# Altium integrated library Linear Technology Power Management Switching Regulator LT1074-LT8705.IntLib: 2252 symbols (part 107 of 148)
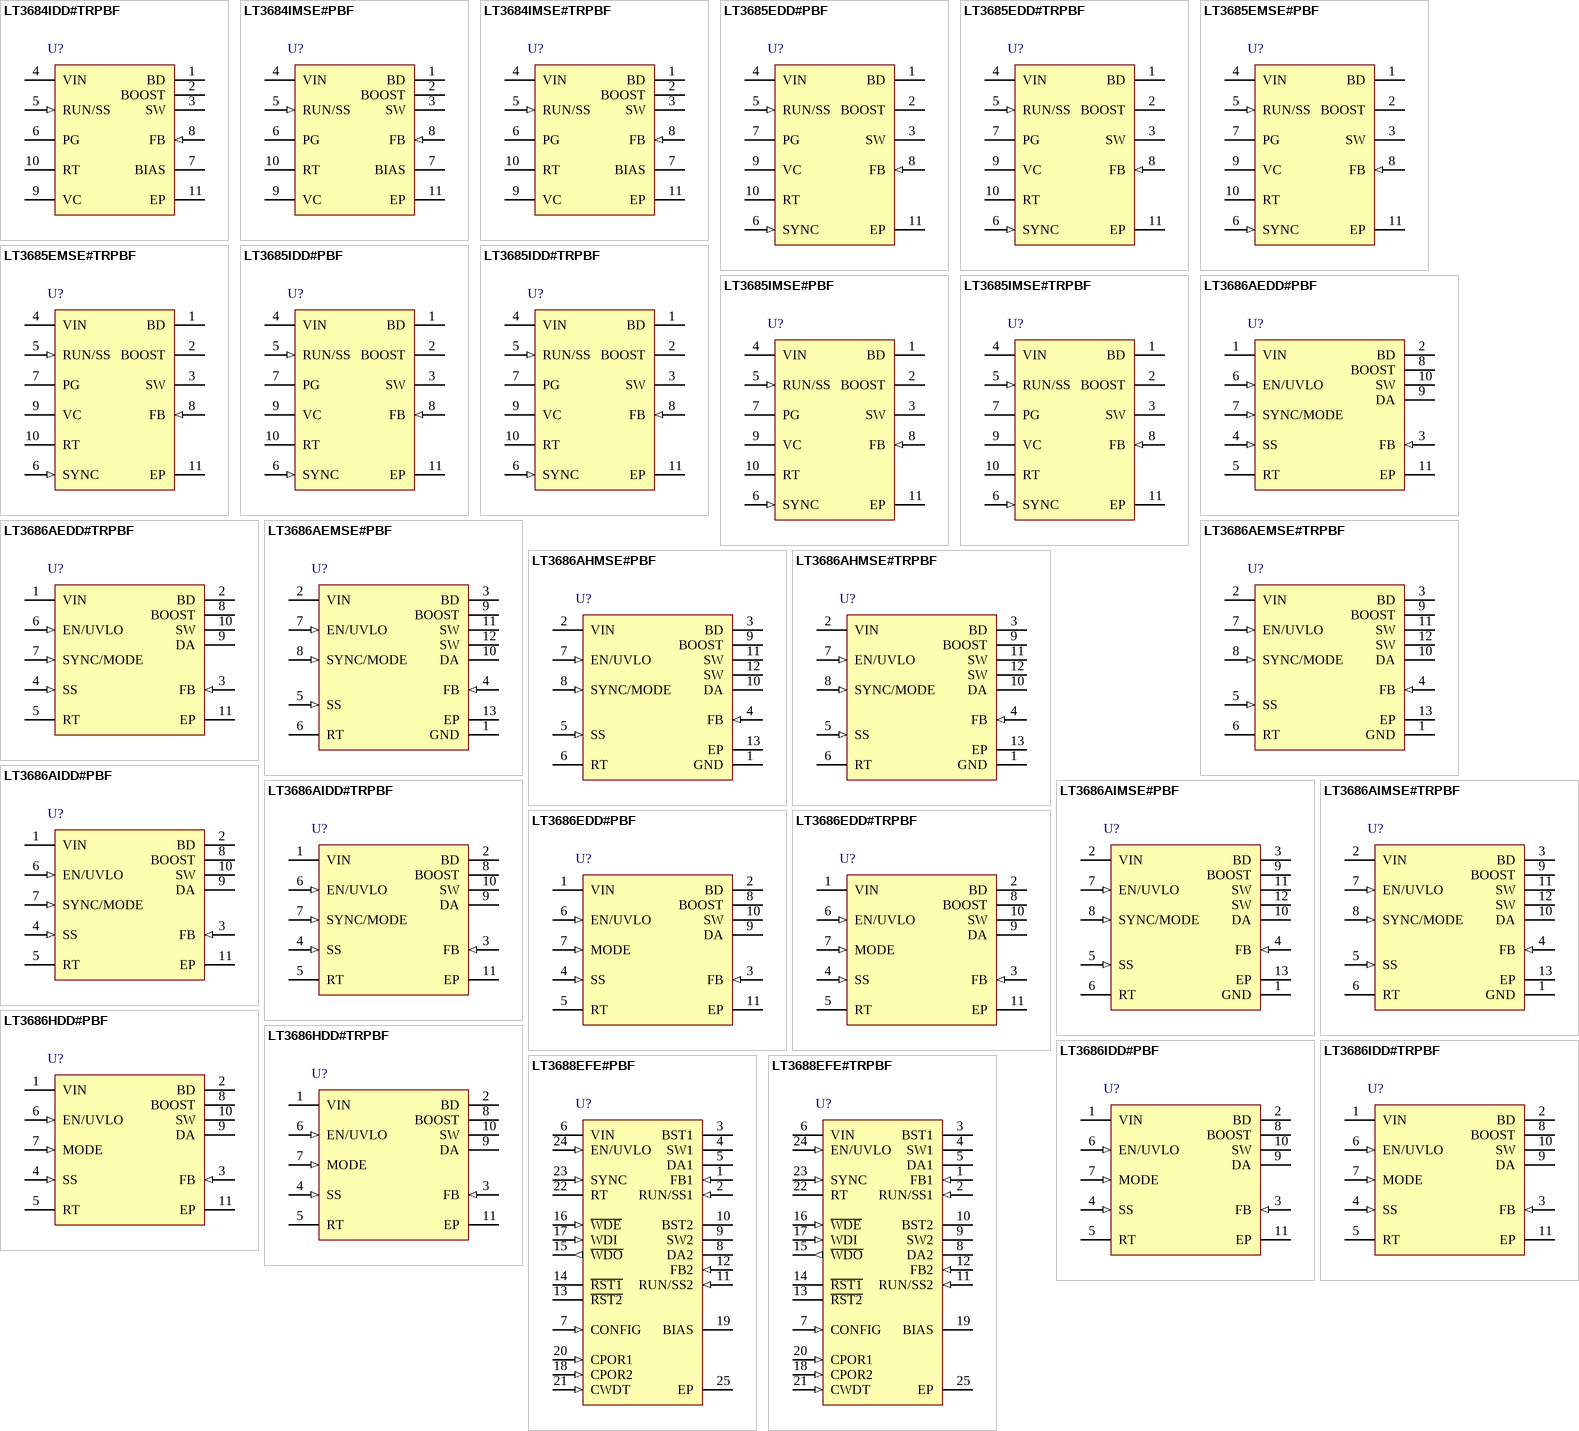
[diagram p177: symbols LT3684IDD#TRPBF to LT3688EFE#TRPBF]

## LT3686AIMSE#TRPBF
designator U?
1.2 A Step-Down Regulator, 12-pin SOP (MSE-12-EDP), -40 to 125 degC, Pb-Free, Tape and Reel; Manufacturer: Linear Technology; PartNumber: LT3686AIMSE#TRPBF; Frequency Adjust Range: 300kHz - 2.5MHz; Number of Outputs: 1; Over Voltage Protection(V): 60; DatasheetVersion: Rev. A; PackageVersion: Rev. G, 05/2013; PackageReference: MSE-12-EDP; PackageDescription: 12-Pin Plastic MSOP, Exposed Die Pad, Body 4.039 x 3 mm, Pitch 0.65 mm; Supplier 1: Digi-Key; Supplier Part Number 1: LT3686AIMSE#TRPBF-ND; Packing: Tape and Reel; RoHS: TRUE; Mounting Technology: Surface Mount; ComponentLink1Description: Manufacturer URL; ComponentLink1URL: http://www.linear.com/; ComponentLink2Description: Datasheet; ComponentLink2URL: http://cds.linear.com/docs/en/datasheet/3686afa.pdf; ComponentLink3Description: Package Specification; ComponentLink3URL: http://cds.linear.com/docs/en/packaging/05081666_G_MSE12.pdf
footprint LT-MSE-12-EDP_N (SOP, 12-Leads, Body 4.1x3.1mm, Pitch 0.65mm, Thermal Pad 2.95x1.76mm, IPC Medium Density)
footprint LT-MSE-12-EDP_L (SOP, 12-Leads, Body 4.1x3.1mm, Pitch 0.65mm, Thermal Pad 2.95x1.76mm, IPC High Density)
footprint LT-MSE-12-EDP_M (SOP, 12-Leads, Body 4.1x3.1mm, Pitch 0.65mm, Thermal Pad 2.95x1.76mm, IPC Low Density)
pins: 1 GND (power) "The exposed pad GND pin is the only ground connection for the device. The exposed pad should be soldered to a large copper area to reduce thermal resistance.", 2 VIN (power) "The VIN pin supplies current to the LT3686A's internal regulator and to the internal power switch. This pin must be locally bypassed.", 3 BD (power) "When the SYNC/MODE Pin is driven with clock pulses or tied greater than 0.8V, the LT3686A will prevent pulse-skipping at light loads by regulating an active load on the BD pin; see Applications Information section Fixed (See Datasheet)", 4 FB (in) "The LT3686A regulates its feedback pin to 0.8V. Connect the feedback resistor divider tap to this pin. Set the output voltage according to: R1=R2( VOUT/ 0.8V - 1)  A good value for R2 is 10k.", 5 SS (in) "Provides Soft-Start and Tracking. An internal 2uA current source tied to a 2.5V reference supplies current to this pin to charge an external capacitor to create a voltage ramp at the pin. Feedback voltage and switching (See Datasheet)", 6 RT "The RT pin is used to program the oscillator frequency. Select the value of RT resistor according to table 1 in the applications section of the data sheet.", 7 EN/UVLO (in) "The EN/UVLO pin is used to start up the LT3686A. Pull the pin below 0.4V to shutdown the LT3686A. The 1.28V threshold can function as an accurate undervoltage lockout (UVLO), preventing the regulator from operating until the (See Datasheet)", 8 SYNC/MODE (in) "The SYNC/MODE pin is used to synchronize the internal oscillator of the LT3686A to an external signal. The SYNC signal can be driven by a signal with pulse width of at least 200ns on and off time. The SYNC/MODE Pin also acts (See Datasheet)", 9 BOOST "The BOOST pin is used to provide a drive voltage, higher than the input voltage, to the internal bipolar NPN power switch.", 10 DA "Connect catch diode (D1) anode to this pin.", 11 SW (power) "The SW pin is the output of the internal power switch. Connect this pin to the inductor, catch diode and boost capacitor.", 12 SW (power) "The SW pin is the output of the internal power switch. Connect this pin to the inductor, catch diode and boost capacitor.", 13 EP (power) "The exposed pad GND pin is the only ground connection for the device. The exposed pad should be soldered to a large copper area to reduce thermal resistance."

## LT3686EDD#PBF
designator U?
1.2 A Step-Down Regulator, 10-pin SON (DD-10), -40 to 125 degC, Pb-Free; Manufacturer: Linear Technology; PartNumber: LT3686EDD#PBF; Frequency Adjust Range: 300kHz - 2.5MHz; Number of Outputs: 1; Over Voltage Protection(V): 55; DatasheetVersion: Rev. C; PackageVersion: Rev. C, 06/2010; PackageReference: DD-10; PackageDescription: 10-Pin Plastic DFN, Body 3 x 3 mm, Pitch 0.5 mm; Supplier 1: Digi-Key; Supplier Part Number 1: LT3686EDD#PBF-ND; Supplier 2: Newark; Supplier Part Number 2: 13T8500; RoHS: TRUE; Mounting Technology: Surface Mount; Code_JEDEC: MO-229; ComponentLink1Description: Manufacturer URL; ComponentLink1URL: http://www.linear.com/; ComponentLink2Description: Datasheet; ComponentLink2URL: http://cds.linear.com/docs/en/datasheet/3686fc.pdf; ComponentLink3Description: Package Specification; ComponentLink3URL: http://cds.linear.com/docs/en/packaging/DFN_10_05-08-1699.pdf
footprint LT-DD-10_V (SON, 10-Leads, Body 3x3mm, Pitch 0.5mm, Thermal Pad 2.38x1.65mm)
pins: 1 VIN (power) "The VIN pin supplies current to the LT3686’s internal regulator and to the internal power switch. This pin must be locally bypassed.", 2 BD (power) "The BD pin is used to provide current to the internal Boost Schottky diode. Tie this pin to output whenever possible. When the MODE pin is greater than 0.8V, the LT3686 will prevent pulse-skipping at light loads by (See Datasheet)", 3 FB (in) "The LT3686 regulates its feedback pin to 0.8V. Connect the feedback resistor divider tap to this pin. Set the output voltage according to VOUT = 0.8(1 + R1/R2). A good value for R2 is 10k.", 4 SS (in) "Provides Soft-Start and Tracking. An internal 2uA current source tied to a 2.5V reference supplies current to this pin to charge an external capacitor to create a voltage ramp at the pin. Feedback voltage and switching (See Datasheet)", 5 RT "The RT pin is used to program the oscillator frequency. Select the value of RT resistor according to Table 1 in the applications section of the data sheet.", 6 EN/UVLO (in) "The EN/UVLO pin is used to start up the LT3686. Pull the pin below 0.4V to shutdown the LT3686. The 1.27V threshold can function as an accurate undervoltagelockout (UVLO), preventing the regulator from operating until the (See Datasheet)", 7 MODE (in) "The MODE pin acts as mode select for the BD active load; when it is tied high, the LT3686 will prevent pulse skipping at light loads by regulating an active load on the BD pin. To disable the active load, tie MODE to GND", 8 BOOST "The BOOST pin is used to provide a drive voltage, higher than the input voltage, to the internal bipolar NPN power switch.", 9 DA "Connect catch diode (D1) anode to this pin.", 10 SW (power) "The SW pin is the output of the internal power switch. Connect this pin to the inductor, catch diode and boost capacitor.", 11 EP (power) "The exposed pad GND pin is the only ground connection for the device. The exposed pad should be soldered to a large copper area to reduce thermal resistance."

## LT3686EDD#TRPBF
designator U?
1.2 A Step-Down Regulator, 10-pin SON (DD-10), -40 to 125 degC, Pb-Free, Tape and Reel; Manufacturer: Linear Technology; PartNumber: LT3686EDD#TRPBF; Frequency Adjust Range: 300kHz - 2.5MHz; Number of Outputs: 1; Over Voltage Protection(V): 55; DatasheetVersion: Rev. C; PackageVersion: Rev. C, 06/2010; PackageReference: DD-10; PackageDescription: 10-Pin Plastic DFN, Body 3 x 3 mm, Pitch 0.5 mm; Supplier 1: Digi-Key; Supplier Part Number 1: LT3686EDD#TRPBF-ND; Supplier 2: Newark; Supplier Part Number 2: 13T8501; Packing: Tape and Reel; RoHS: TRUE; Mounting Technology: Surface Mount; Code_JEDEC: MO-229; ComponentLink1Description: Manufacturer URL; ComponentLink1URL: http://www.linear.com/; ComponentLink2Description: Datasheet; ComponentLink2URL: http://cds.linear.com/docs/en/datasheet/3686fc.pdf; ComponentLink3Description: Package Specification; ComponentLink3URL: http://cds.linear.com/docs/en/packaging/DFN_10_05-08-1699.pdf
footprint LT-DD-10_V (SON, 10-Leads, Body 3x3mm, Pitch 0.5mm, Thermal Pad 2.38x1.65mm)
pins: 1 VIN (power) "The VIN pin supplies current to the LT3686’s internal regulator and to the internal power switch. This pin must be locally bypassed.", 2 BD (power) "The BD pin is used to provide current to the internal Boost Schottky diode. Tie this pin to output whenever possible. When the MODE pin is greater than 0.8V, the LT3686 will prevent pulse-skipping at light loads by (See Datasheet)", 3 FB (in) "The LT3686 regulates its feedback pin to 0.8V. Connect the feedback resistor divider tap to this pin. Set the output voltage according to VOUT = 0.8(1 + R1/R2). A good value for R2 is 10k.", 4 SS (in) "Provides Soft-Start and Tracking. An internal 2uA current source tied to a 2.5V reference supplies current to this pin to charge an external capacitor to create a voltage ramp at the pin. Feedback voltage and switching (See Datasheet)", 5 RT "The RT pin is used to program the oscillator frequency. Select the value of RT resistor according to Table 1 in the applications section of the data sheet.", 6 EN/UVLO (in) "The EN/UVLO pin is used to start up the LT3686. Pull the pin below 0.4V to shutdown the LT3686. The 1.27V threshold can function as an accurate undervoltagelockout (UVLO), preventing the regulator from operating until the (See Datasheet)", 7 MODE (in) "The MODE pin acts as mode select for the BD active load; when it is tied high, the LT3686 will prevent pulse skipping at light loads by regulating an active load on the BD pin. To disable the active load, tie MODE to GND", 8 BOOST "The BOOST pin is used to provide a drive voltage, higher than the input voltage, to the internal bipolar NPN power switch.", 9 DA "Connect catch diode (D1) anode to this pin.", 10 SW (power) "The SW pin is the output of the internal power switch. Connect this pin to the inductor, catch diode and boost capacitor.", 11 EP (power) "The exposed pad GND pin is the only ground connection for the device. The exposed pad should be soldered to a large copper area to reduce thermal resistance."

## LT3686HDD#PBF
designator U?
1.2 A Step-Down Regulator, 10-pin SON (DD-10), -40 to 150 degC, Pb-Free; Manufacturer: Linear Technology; PartNumber: LT3686HDD#PBF; Frequency Adjust Range: 300kHz - 2.5MHz; Number of Outputs: 1; Over Voltage Protection(V): 55; DatasheetVersion: Rev. C; PackageVersion: Rev. C, 06/2010; PackageReference: DD-10; PackageDescription: 10-Pin Plastic DFN, Body 3 x 3 mm, Pitch 0.5 mm; Supplier 1: Digi-Key; Supplier Part Number 1: LT3686HDD#PBF-ND; Supplier 2: Farnell; Supplier Part Number 2: 2294943; Supplier 3: Newark; Supplier Part Number 3: 78R8986; RoHS: TRUE; Mounting Technology: Surface Mount; Code_JEDEC: MO-229; ComponentLink1Description: Manufacturer URL; ComponentLink1URL: http://www.linear.com/; ComponentLink2Description: Datasheet; ComponentLink2URL: http://cds.linear.com/docs/en/datasheet/3686fc.pdf; ComponentLink3Description: Package Specification; ComponentLink3URL: http://cds.linear.com/docs/en/packaging/DFN_10_05-08-1699.pdf
footprint LT-DD-10_V (SON, 10-Leads, Body 3x3mm, Pitch 0.5mm, Thermal Pad 2.38x1.65mm)
pins: 1 VIN (power) "The VIN pin supplies current to the LT3686’s internal regulator and to the internal power switch. This pin must be locally bypassed.", 2 BD (power) "The BD pin is used to provide current to the internal Boost Schottky diode. Tie this pin to output whenever possible. When the MODE pin is greater than 0.8V, the LT3686 will prevent pulse-skipping at light loads by (See Datasheet)", 3 FB (in) "The LT3686 regulates its feedback pin to 0.8V. Connect the feedback resistor divider tap to this pin. Set the output voltage according to VOUT = 0.8(1 + R1/R2). A good value for R2 is 10k.", 4 SS (in) "Provides Soft-Start and Tracking. An internal 2uA current source tied to a 2.5V reference supplies current to this pin to charge an external capacitor to create a voltage ramp at the pin. Feedback voltage and switching (See Datasheet)", 5 RT "The RT pin is used to program the oscillator frequency. Select the value of RT resistor according to Table 1 in the applications section of the data sheet.", 6 EN/UVLO (in) "The EN/UVLO pin is used to start up the LT3686. Pull the pin below 0.4V to shutdown the LT3686. The 1.27V threshold can function as an accurate undervoltagelockout (UVLO), preventing the regulator from operating until the (See Datasheet)", 7 MODE (in) "The MODE pin acts as mode select for the BD active load; when it is tied high, the LT3686 will prevent pulse skipping at light loads by regulating an active load on the BD pin. To disable the active load, tie MODE to GND", 8 BOOST "The BOOST pin is used to provide a drive voltage, higher than the input voltage, to the internal bipolar NPN power switch.", 9 DA "Connect catch diode (D1) anode to this pin.", 10 SW (power) "The SW pin is the output of the internal power switch. Connect this pin to the inductor, catch diode and boost capacitor.", 11 EP (power) "The exposed pad GND pin is the only ground connection for the device. The exposed pad should be soldered to a large copper area to reduce thermal resistance."

## LT3686HDD#TRPBF
designator U?
1.2 A Step-Down Regulator, 10-pin SON (DD-10), -40 to 150 degC, Pb-Free, Tape and Reel; Manufacturer: Linear Technology; PartNumber: LT3686HDD#TRPBF; Frequency Adjust Range: 300kHz - 2.5MHz; Number of Outputs: 1; Over Voltage Protection(V): 55; DatasheetVersion: Rev. C; PackageVersion: Rev. C, 06/2010; PackageReference: DD-10; PackageDescription: 10-Pin Plastic DFN, Body 3 x 3 mm, Pitch 0.5 mm; Supplier 1: Digi-Key; Supplier Part Number 1: LT3686HDD#TRPBF-ND; Packing: Tape and Reel; RoHS: TRUE; Mounting Technology: Surface Mount; Code_JEDEC: MO-229; ComponentLink1Description: Manufacturer URL; ComponentLink1URL: http://www.linear.com/; ComponentLink2Description: Datasheet; ComponentLink2URL: http://cds.linear.com/docs/en/datasheet/3686fc.pdf; ComponentLink3Description: Package Specification; ComponentLink3URL: http://cds.linear.com/docs/en/packaging/DFN_10_05-08-1699.pdf
footprint LT-DD-10_V (SON, 10-Leads, Body 3x3mm, Pitch 0.5mm, Thermal Pad 2.38x1.65mm)
pins: 1 VIN (power) "The VIN pin supplies current to the LT3686’s internal regulator and to the internal power switch. This pin must be locally bypassed.", 2 BD (power) "The BD pin is used to provide current to the internal Boost Schottky diode. Tie this pin to output whenever possible. When the MODE pin is greater than 0.8V, the LT3686 will prevent pulse-skipping at light loads by (See Datasheet)", 3 FB (in) "The LT3686 regulates its feedback pin to 0.8V. Connect the feedback resistor divider tap to this pin. Set the output voltage according to VOUT = 0.8(1 + R1/R2). A good value for R2 is 10k.", 4 SS (in) "Provides Soft-Start and Tracking. An internal 2uA current source tied to a 2.5V reference supplies current to this pin to charge an external capacitor to create a voltage ramp at the pin. Feedback voltage and switching (See Datasheet)", 5 RT "The RT pin is used to program the oscillator frequency. Select the value of RT resistor according to Table 1 in the applications section of the data sheet.", 6 EN/UVLO (in) "The EN/UVLO pin is used to start up the LT3686. Pull the pin below 0.4V to shutdown the LT3686. The 1.27V threshold can function as an accurate undervoltagelockout (UVLO), preventing the regulator from operating until the (See Datasheet)", 7 MODE (in) "The MODE pin acts as mode select for the BD active load; when it is tied high, the LT3686 will prevent pulse skipping at light loads by regulating an active load on the BD pin. To disable the active load, tie MODE to GND", 8 BOOST "The BOOST pin is used to provide a drive voltage, higher than the input voltage, to the internal bipolar NPN power switch.", 9 DA "Connect catch diode (D1) anode to this pin.", 10 SW (power) "The SW pin is the output of the internal power switch. Connect this pin to the inductor, catch diode and boost capacitor.", 11 EP (power) "The exposed pad GND pin is the only ground connection for the device. The exposed pad should be soldered to a large copper area to reduce thermal resistance."

## LT3686IDD#PBF
designator U?
1.2 A Step-Down Regulator, 10-pin SON (DD-10), -40 to 125 degC, Pb-Free; Manufacturer: Linear Technology; PartNumber: LT3686IDD#PBF; Frequency Adjust Range: 300kHz - 2.5MHz; Number of Outputs: 1; Over Voltage Protection(V): 55; DatasheetVersion: Rev. C; PackageVersion: Rev. C, 06/2010; PackageReference: DD-10; PackageDescription: 10-Pin Plastic DFN, Body 3 x 3 mm, Pitch 0.5 mm; Supplier 1: Digi-Key; Supplier Part Number 1: LT3686IDD#PBF-ND; Supplier 2: Farnell; Supplier Part Number 2: 2294944; Supplier 3: Newark; Supplier Part Number 3: 13T8502; RoHS: TRUE; Mounting Technology: Surface Mount; Code_JEDEC: MO-229; ComponentLink1Description: Manufacturer URL; ComponentLink1URL: http://www.linear.com/; ComponentLink2Description: Datasheet; ComponentLink2URL: http://cds.linear.com/docs/en/datasheet/3686fc.pdf; ComponentLink3Description: Package Specification; ComponentLink3URL: http://cds.linear.com/docs/en/packaging/DFN_10_05-08-1699.pdf
footprint LT-DD-10_V (SON, 10-Leads, Body 3x3mm, Pitch 0.5mm, Thermal Pad 2.38x1.65mm)
pins: 1 VIN (power) "The VIN pin supplies current to the LT3686’s internal regulator and to the internal power switch. This pin must be locally bypassed.", 2 BD (power) "The BD pin is used to provide current to the internal Boost Schottky diode. Tie this pin to output whenever possible. When the MODE pin is greater than 0.8V, the LT3686 will prevent pulse-skipping at light loads by (See Datasheet)", 3 FB (in) "The LT3686 regulates its feedback pin to 0.8V. Connect the feedback resistor divider tap to this pin. Set the output voltage according to VOUT = 0.8(1 + R1/R2). A good value for R2 is 10k.", 4 SS (in) "Provides Soft-Start and Tracking. An internal 2uA current source tied to a 2.5V reference supplies current to this pin to charge an external capacitor to create a voltage ramp at the pin. Feedback voltage and switching (See Datasheet)", 5 RT "The RT pin is used to program the oscillator frequency. Select the value of RT resistor according to Table 1 in the applications section of the data sheet.", 6 EN/UVLO (in) "The EN/UVLO pin is used to start up the LT3686. Pull the pin below 0.4V to shutdown the LT3686. The 1.27V threshold can function as an accurate undervoltagelockout (UVLO), preventing the regulator from operating until the (See Datasheet)", 7 MODE (in) "The MODE pin acts as mode select for the BD active load; when it is tied high, the LT3686 will prevent pulse skipping at light loads by regulating an active load on the BD pin. To disable the active load, tie MODE to GND", 8 BOOST "The BOOST pin is used to provide a drive voltage, higher than the input voltage, to the internal bipolar NPN power switch.", 9 DA "Connect catch diode (D1) anode to this pin.", 10 SW (power) "The SW pin is the output of the internal power switch. Connect this pin to the inductor, catch diode and boost capacitor.", 11 EP (power) "The exposed pad GND pin is the only ground connection for the device. The exposed pad should be soldered to a large copper area to reduce thermal resistance."

## LT3686IDD#TRPBF
designator U?
1.2 A Step-Down Regulator, 10-pin SON (DD-10), -40 to 125 degC, Pb-Free, Tape and Reel; Manufacturer: Linear Technology; PartNumber: LT3686IDD#TRPBF; Frequency Adjust Range: 300kHz - 2.5MHz; Number of Outputs: 1; Over Voltage Protection(V): 55; DatasheetVersion: Rev. C; PackageVersion: Rev. C, 06/2010; PackageReference: DD-10; PackageDescription: 10-Pin Plastic DFN, Body 3 x 3 mm, Pitch 0.5 mm; Supplier 1: Digi-Key; Supplier Part Number 1: LT3686IDD#TRPBF-ND; Supplier 2: Newark; Supplier Part Number 2: 13T8503; Packing: Tape and Reel; RoHS: TRUE; Mounting Technology: Surface Mount; Code_JEDEC: MO-229; ComponentLink1Description: Manufacturer URL; ComponentLink1URL: http://www.linear.com/; ComponentLink2Description: Datasheet; ComponentLink2URL: http://cds.linear.com/docs/en/datasheet/3686fc.pdf; ComponentLink3Description: Package Specification; ComponentLink3URL: http://cds.linear.com/docs/en/packaging/DFN_10_05-08-1699.pdf
footprint LT-DD-10_V (SON, 10-Leads, Body 3x3mm, Pitch 0.5mm, Thermal Pad 2.38x1.65mm)
pins: 1 VIN (power) "The VIN pin supplies current to the LT3686’s internal regulator and to the internal power switch. This pin must be locally bypassed.", 2 BD (power) "The BD pin is used to provide current to the internal Boost Schottky diode. Tie this pin to output whenever possible. When the MODE pin is greater than 0.8V, the LT3686 will prevent pulse-skipping at light loads by (See Datasheet)", 3 FB (in) "The LT3686 regulates its feedback pin to 0.8V. Connect the feedback resistor divider tap to this pin. Set the output voltage according to VOUT = 0.8(1 + R1/R2). A good value for R2 is 10k.", 4 SS (in) "Provides Soft-Start and Tracking. An internal 2uA current source tied to a 2.5V reference supplies current to this pin to charge an external capacitor to create a voltage ramp at the pin. Feedback voltage and switching (See Datasheet)", 5 RT "The RT pin is used to program the oscillator frequency. Select the value of RT resistor according to Table 1 in the applications section of the data sheet.", 6 EN/UVLO (in) "The EN/UVLO pin is used to start up the LT3686. Pull the pin below 0.4V to shutdown the LT3686. The 1.27V threshold can function as an accurate undervoltagelockout (UVLO), preventing the regulator from operating until the (See Datasheet)", 7 MODE (in) "The MODE pin acts as mode select for the BD active load; when it is tied high, the LT3686 will prevent pulse skipping at light loads by regulating an active load on the BD pin. To disable the active load, tie MODE to GND", 8 BOOST "The BOOST pin is used to provide a drive voltage, higher than the input voltage, to the internal bipolar NPN power switch.", 9 DA "Connect catch diode (D1) anode to this pin.", 10 SW (power) "The SW pin is the output of the internal power switch. Connect this pin to the inductor, catch diode and boost capacitor.", 11 EP (power) "The exposed pad GND pin is the only ground connection for the device. The exposed pad should be soldered to a large copper area to reduce thermal resistance."

## LT3688EFE#PBF
designator U?
Dual 800 mA Step-Down Switching Regulator with Power-On Reset and Watchdog Timer, 24-pin SOP (FE-24-EPV-AA), -40 to 125 degC, Pb-Free; Manufacturer: Linear Technology; PartNumber: LT3688EFE#PBF; Frequency Adjust Range: 350kHz - 2.2MHz; Number of Outputs: 2; PackageVersion: Rev. B, 09/2010; PackageReference: FE-24; PackageDescription: 24-Pin Plastic TSSOP, Body 7.8 x 4.4 mm, Pitch 0.65 mm; Supplier 1: Digi-Key; Supplier Part Number 1: LT3688EFE#PBF-ND; Supplier 2: Farnell; Supplier Part Number 2: 2145067; Supplier 3: Newark; Supplier Part Number 3: 24W8521; RoHS: TRUE; Mounting Technology: Surface Mount; ComponentLink1Description: Manufacturer URL; ComponentLink1URL: http://www.linear.com/; ComponentLink2Description: Datasheet; ComponentLink2URL: http://cds.linear.com/docs/en/datasheet/3688f.pdf; ComponentLink3Description: Package Specification; ComponentLink3URL: http://cds.linear.com/docs/en/packaging/TSSOP_24_05-08-1771.pdf
footprint LT-FE-24-EPV-AA_N (SOP, 24-Leads, Body 7.9x4.5mm, Pitch 0.65mm, Thermal Pad 2.74x3.25mm, IPC Medium Density)
footprint LT-FE-24-EPV-AA_L (SOP, 24-Leads, Body 7.9x4.5mm, Pitch 0.65mm, Thermal Pad 2.74x3.25mm, IPC High Density)
footprint LT-FE-24-EPV-AA_M (SOP, 24-Leads, Body 7.9x4.5mm, Pitch 0.65mm, Thermal Pad 2.74x3.25mm, IPC Low Density)
pins: 1 FB1 (in) "The LT3688 regulates the feedback pins to 0.800V. Connect the feedback resistor divider taps to this pin.", 2 RUN/SS1 (in) "Place a capacitor from RUN/SS to GND to program the soft start period. Use a 1000pF or larger capacitor at these pins. To ensure the SS capacitors are discharged, internal circuitry pulls the RUN/SS pins low and disables (See Datasheet)", 3 BST1 "The BST pins are used to provide drive voltage, higher than the input voltage, to the internal NPN power switches.", 4 SW1 (power) "The SW pins are the outputs of the internal power switches. Connect these pins to the inductors, catch diodes and boost capacitors.", 5 DA1 "Tie the DA pin to the anode of the external catch Schottky diode. If the DA pin current exceeds 1.2A, which could occur in an overload or short-circuit condition, switching is disabled until the DA pin current falls below 1.(See Datasheet)", 6 VIN (power) "The VIN pin supplies current to the LT3688’s internal circuitry and to the internal power switches and must be locally bypassed.", 7 CONFIG (in) "The CONFIG pin programs the start-up sequence of the two voltage regulators and the behavior of the power-on reset and watchdog timers. To select one of three configuration options, tie the CONFIG pin to VIN, tie the CONFIG (See Datasheet)", 8 DA2 "Tie the DA pin to the anode of the external catch Schottky diode. If the DA pin current exceeds 1.2A, which could occur in an overload or short-circuit condition, switching is disabled until the DA pin current falls below 1.(See Datasheet)", 9 SW2 (power) "The SW pins are the outputs of the internal power switches. Connect these pins to the inductors, catch diodes and boost capacitors.", 10 BST2 "The BST pins are used to provide drive voltage, higher than the input voltage, to the internal NPN power switches.", 11 RUN/SS2 (in) "Place a capacitor from RUN/SS to GND to program the soft start period. Use a 1000pF or larger capacitor at these pins. To ensure the SS capacitors are discharged, internal circuitry pulls the RUN/SS pins low and disables (See Datasheet)", 12 FB2 (in) "The LT3688 regulates the feedback pins to 0.800V. Connect the feedback resistor divider taps to this pin.", 13 ~{RST2} (oc) "The R\S\T\ pins are active low, open-drain logic outputs with a weak pull-up to BIAS. After VFB rises above 0.72V, the reset remains asserted for the period set by the capacitor on the CPOR pin. Tie the R\S\T\ pins to BIAS (See Datasheet)", 14 ~{RST1} (oc) "The R\S\T\ pins are active low, open-drain logic outputs with a weak pull-up to BIAS. After VFB rises above 0.72V, the reset remains asserted for the period set by the capacitor on the CPOR pin. Tie the R\S\T\ pins to BIAS (See Datasheet)", 15 ~{WDO} (out) "W\D\O\ will go low if the microprocessor fails to drive the WDI pin of the LT3688 with the appropriate signal. Tie the W\D\O\ pin to BIAS with a 100k resistor for a stronger pull-up. Keep capacitive loading on this pin below (See Datasheet)", 16 ~{WDE} (in) "The watchdog timer enable pin disables the watchdog timer if the W\D\E\ voltage exceeds 1V. Float this pin or tie to ground for normal operation.", 17 WDI (in) "The watchdog timer input pin receives the watchdog signal from the microprocessor. If two or more negative edges occur on WDI before the programmed fast timer period or no negative edge occurs within the slow timer period, (See Datasheet)", 18 CPOR2 (in) "Place a capacitor between this pin and ground to set the power-on-reset timeout period.", 19 BIAS (power) "The BIAS pin supplies current to the internal circuitry when BIAS is above 3V, helping reduce input quiescent current. The internal Schottky diodes are connected from BIAS to BST, providing the charging path for the boost (See Datasheet)", 20 CPOR1 (in) "Place a capacitor between this pin and ground to set the power-on-reset timeout period.", 21 CWDT (in) "Place a capacitor between this pin and ground to set the fast and slow watchdog timer periods.", 22 RT "The RT pin is used to set the internal oscillator frequency. Tie a resistor from RT to GND to set the switching frequency.", 23 SYNC (in) "Drive the SYNC pin with a logiclevel signal with positive and negative pulse widths of at least 150ns. Do not float this pin. Tie to GND if the SYNC feature is not used.", 24 EN/UVLO (in) "The EN/UVLO pin is used to put the LT3688 in shutdown mode. Pull the pin below 0.3V to shut down the LT3688. The 1.25V threshold can function as an accurate undervoltage lockout (UVLO), preventing the regulator from (See Datasheet)", 25 EP (power) "Ground. Tie the exposed pad directly to the ground plane. The exposed pad metal of the package provides both electrical contact to ground and good thermal contact to the printed circuit board. The device must be soldered to (See Datasheet)"

## LT3688EFE#TRPBF
designator U?
Dual 800 mA Step-Down Switching Regulator with Power-On Reset and Watchdog Timer, 24-pin SOP (FE-24-EPV-AA), -40 to 125 degC, Pb-Free, Tape and Reel; Manufacturer: Linear Technology; PartNumber: LT3688EFE#TRPBF; Frequency Adjust Range: 350kHz - 2.2MHz; Number of Outputs: 2; PackageVersion: Rev. B, 09/2010; PackageReference: FE-24; PackageDescription: 24-Pin Plastic TSSOP, Body 7.8 x 4.4 mm, Pitch 0.65 mm; Supplier 1: Digi-Key; Supplier Part Number 1: LT3688EFE#TRPBF-ND; Supplier 2: Newark; Supplier Part Number 2: 24W8522; Packing: Tape and Reel; RoHS: TRUE; Mounting Technology: Surface Mount; ComponentLink1Description: Manufacturer URL; ComponentLink1URL: http://www.linear.com/; ComponentLink2Description: Datasheet; ComponentLink2URL: http://cds.linear.com/docs/en/datasheet/3688f.pdf; ComponentLink3Description: Package Specification; ComponentLink3URL: http://cds.linear.com/docs/en/packaging/TSSOP_24_05-08-1771.pdf
footprint LT-FE-24-EPV-AA_N (SOP, 24-Leads, Body 7.9x4.5mm, Pitch 0.65mm, Thermal Pad 2.74x3.25mm, IPC Medium Density)
footprint LT-FE-24-EPV-AA_L (SOP, 24-Leads, Body 7.9x4.5mm, Pitch 0.65mm, Thermal Pad 2.74x3.25mm, IPC High Density)
footprint LT-FE-24-EPV-AA_M (SOP, 24-Leads, Body 7.9x4.5mm, Pitch 0.65mm, Thermal Pad 2.74x3.25mm, IPC Low Density)
pins: 1 FB1 (in) "The LT3688 regulates the feedback pins to 0.800V. Connect the feedback resistor divider taps to this pin.", 2 RUN/SS1 (in) "Place a capacitor from RUN/SS to GND to program the soft start period. Use a 1000pF or larger capacitor at these pins. To ensure the SS capacitors are discharged, internal circuitry pulls the RUN/SS pins low and disables (See Datasheet)", 3 BST1 "The BST pins are used to provide drive voltage, higher than the input voltage, to the internal NPN power switches.", 4 SW1 (power) "The SW pins are the outputs of the internal power switches. Connect these pins to the inductors, catch diodes and boost capacitors.", 5 DA1 "Tie the DA pin to the anode of the external catch Schottky diode. If the DA pin current exceeds 1.2A, which could occur in an overload or short-circuit condition, switching is disabled until the DA pin current falls below 1.(See Datasheet)", 6 VIN (power) "The VIN pin supplies current to the LT3688’s internal circuitry and to the internal power switches and must be locally bypassed.", 7 CONFIG (in) "The CONFIG pin programs the start-up sequence of the two voltage regulators and the behavior of the power-on reset and watchdog timers. To select one of three configuration options, tie the CONFIG pin to VIN, tie the CONFIG (See Datasheet)", 8 DA2 "Tie the DA pin to the anode of the external catch Schottky diode. If the DA pin current exceeds 1.2A, which could occur in an overload or short-circuit condition, switching is disabled until the DA pin current falls below 1.(See Datasheet)", 9 SW2 (power) "The SW pins are the outputs of the internal power switches. Connect these pins to the inductors, catch diodes and boost capacitors.", 10 BST2 "The BST pins are used to provide drive voltage, higher than the input voltage, to the internal NPN power switches.", 11 RUN/SS2 (in) "Place a capacitor from RUN/SS to GND to program the soft start period. Use a 1000pF or larger capacitor at these pins. To ensure the SS capacitors are discharged, internal circuitry pulls the RUN/SS pins low and disables (See Datasheet)", 12 FB2 (in) "The LT3688 regulates the feedback pins to 0.800V. Connect the feedback resistor divider taps to this pin.", 13 ~{RST2} (oc) "The R\S\T\ pins are active low, open-drain logic outputs with a weak pull-up to BIAS. After VFB rises above 0.72V, the reset remains asserted for the period set by the capacitor on the CPOR pin. Tie the R\S\T\ pins to BIAS (See Datasheet)", 14 ~{RST1} (oc) "The R\S\T\ pins are active low, open-drain logic outputs with a weak pull-up to BIAS. After VFB rises above 0.72V, the reset remains asserted for the period set by the capacitor on the CPOR pin. Tie the R\S\T\ pins to BIAS (See Datasheet)", 15 ~{WDO} (out) "W\D\O\ will go low if the microprocessor fails to drive the WDI pin of the LT3688 with the appropriate signal. Tie the W\D\O\ pin to BIAS with a 100k resistor for a stronger pull-up. Keep capacitive loading on this pin below (See Datasheet)", 16 ~{WDE} (in) "The watchdog timer enable pin disables the watchdog timer if the W\D\E\ voltage exceeds 1V. Float this pin or tie to ground for normal operation.", 17 WDI (in) "The watchdog timer input pin receives the watchdog signal from the microprocessor. If two or more negative edges occur on WDI before the programmed fast timer period or no negative edge occurs within the slow timer period, (See Datasheet)", 18 CPOR2 (in) "Place a capacitor between this pin and ground to set the power-on-reset timeout period.", 19 BIAS (power) "The BIAS pin supplies current to the internal circuitry when BIAS is above 3V, helping reduce input quiescent current. The internal Schottky diodes are connected from BIAS to BST, providing the charging path for the boost (See Datasheet)", 20 CPOR1 (in) "Place a capacitor between this pin and ground to set the power-on-reset timeout period.", 21 CWDT (in) "Place a capacitor between this pin and ground to set the fast and slow watchdog timer periods.", 22 RT "The RT pin is used to set the internal oscillator frequency. Tie a resistor from RT to GND to set the switching frequency.", 23 SYNC (in) "Drive the SYNC pin with a logiclevel signal with positive and negative pulse widths of at least 150ns. Do not float this pin. Tie to GND if the SYNC feature is not used.", 24 EN/UVLO (in) "The EN/UVLO pin is used to put the LT3688 in shutdown mode. Pull the pin below 0.3V to shut down the LT3688. The 1.25V threshold can function as an accurate undervoltage lockout (UVLO), preventing the regulator from (See Datasheet)", 25 EP (power) "Ground. Tie the exposed pad directly to the ground plane. The exposed pad metal of the package provides both electrical contact to ground and good thermal contact to the printed circuit board. The device must be soldered to (See Datasheet)"

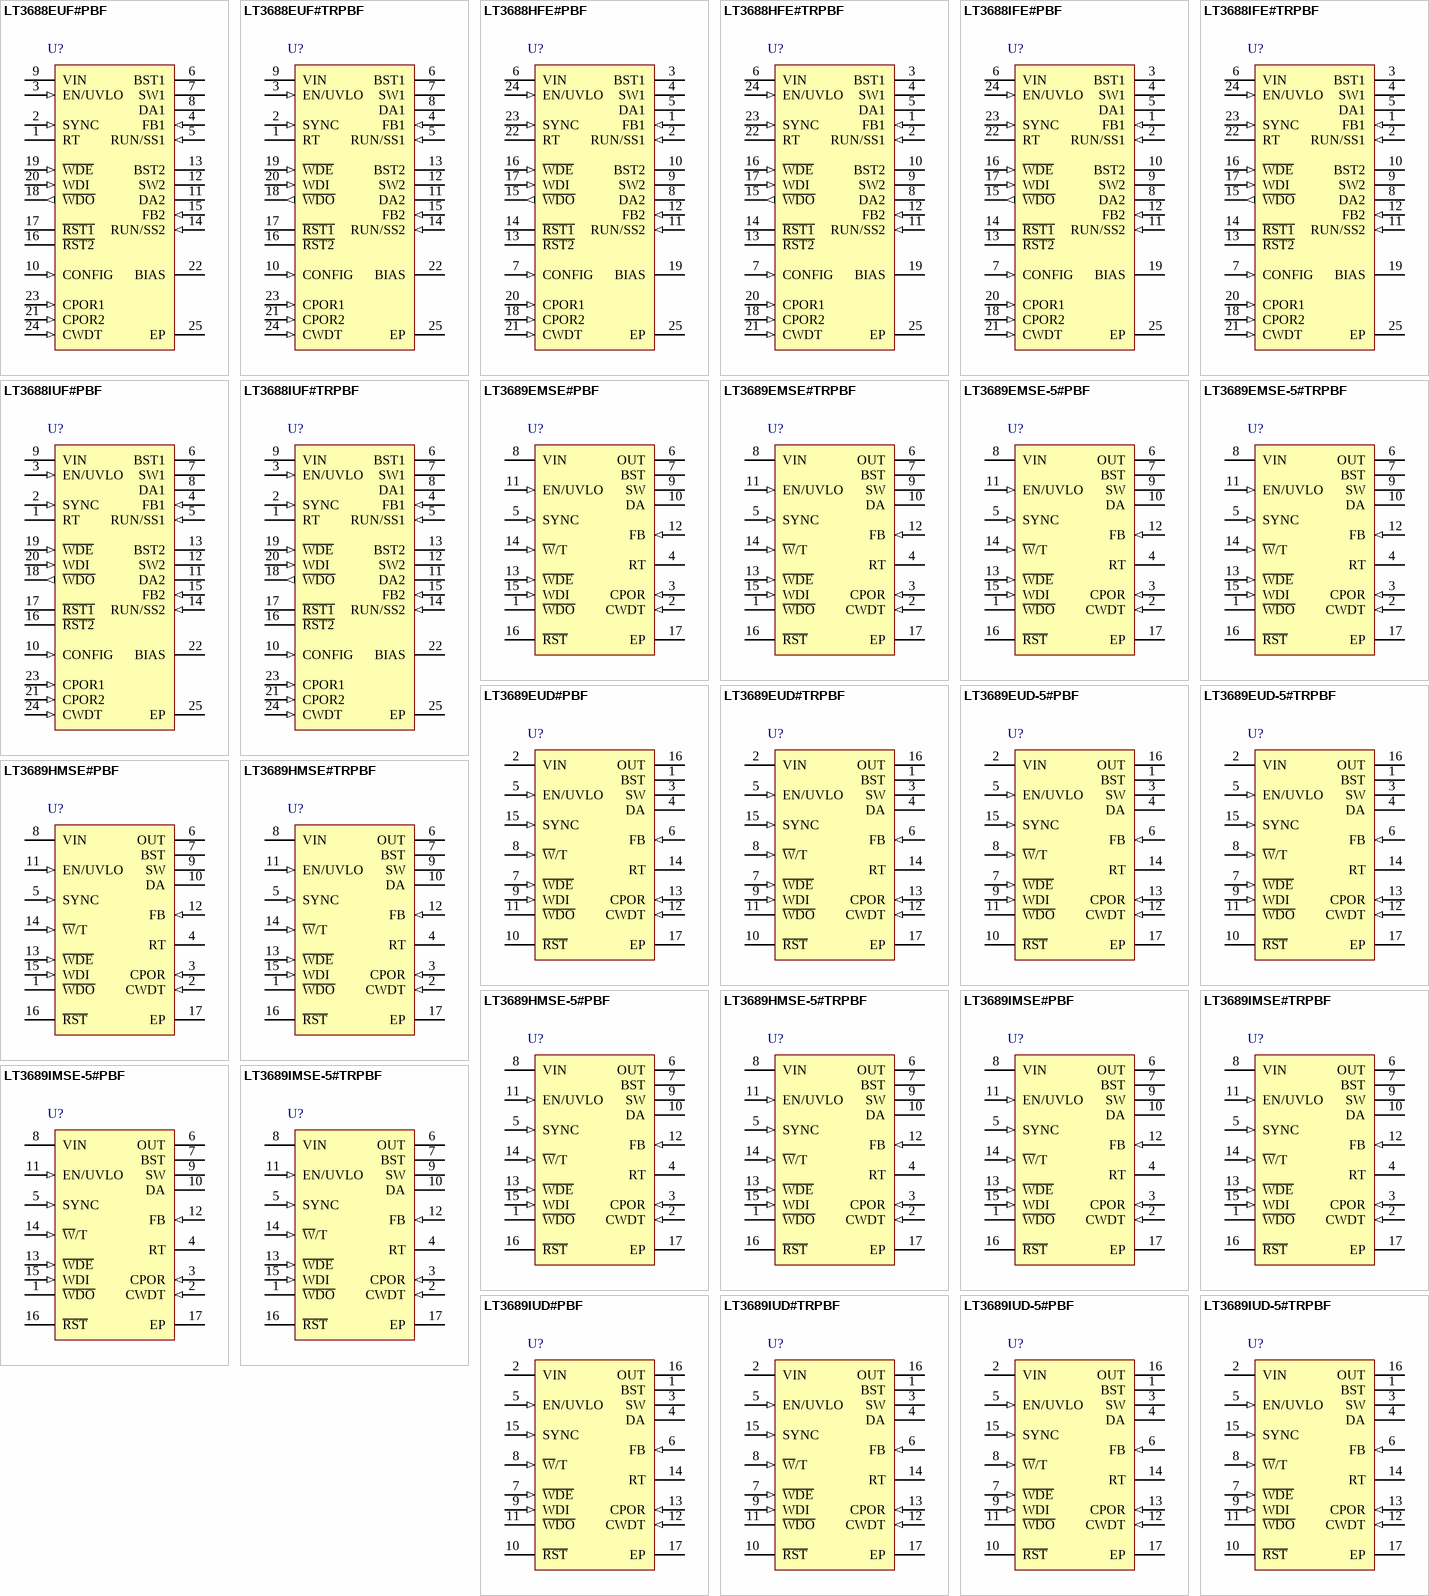
[diagram p53: symbols LT3688EUF#PBF to LT3689IUD-5#TRPBF]

## LT3688EUF#PBF
designator U?
Dual 800 mA Step-Down Switching Regulator with Power-On Reset and Watchdog Timer, 24-pin QFN (UF-24), -40 to 125 degC, Pb-Free; Manufacturer: Linear Technology; PartNumber: LT3688EUF#PBF; Frequency Adjust Range: 350kHz - 2.2MHz; Number of Outputs: 2; PackageVersion: Rev. B, 02/2012; PackageReference: UF24; PackageDescription: 24-Pin Plastic QFN, Body 4 x 4 mm, Pitch 0.5 mm; Supplier 1: Digi-Key; Supplier Part Number 1: LT3688EUF#PBF-ND; RoHS: TRUE; Mounting Technology: Surface Mount; Code_JEDEC: MO-220; ComponentLink1Description: Manufacturer URL; ComponentLink1URL: http://www.linear.com/; ComponentLink2Description: Datasheet; ComponentLink2URL: http://cds.linear.com/docs/en/datasheet/3688f.pdf; ComponentLink3Description: Package Specification; ComponentLink3URL: http://cds.linear.com/docs/en/packaging/%28UF24%29%20QFN%2005-08-1697%20Rev%20B.pdf
footprint LT-UF-24_N (QFN, 24-Leads, Body 4.1x4.1mm, Pitch 0.5mm, Thermal Pad 2.45x2.45mm, IPC Medium Density)
footprint LT-UF-24_L (QFN, 24-Leads, Body 4.1x4.1mm, Pitch 0.5mm, Thermal Pad 2.45x2.45mm, IPC High Density)
footprint LT-UF-24_M (QFN, 24-Leads, Body 4.1x4.1mm, Pitch 0.5mm, Thermal Pad 2.45x2.45mm, IPC Low Density)
pins: 1 RT "The RT pin is used to set the internal oscillator frequency. Tie a resistor from RT to GND to set the switching frequency.", 2 SYNC (in) "Drive the SYNC pin with a logiclevel signal with positive and negative pulse widths of at least 150ns. Do not float this pin. Tie to GND if the SYNC feature is not used.", 3 EN/UVLO (in) "The EN/UVLO pin is used to put the LT3688 in shutdown mode. Pull the pin below 0.3V to shut down the LT3688. The 1.25V threshold can function as an accurate undervoltage lockout (UVLO), preventing the regulator from (See Datasheet)", 4 FB1 (in) "The LT3688 regulates the feedback pins to 0.800V. Connect the feedback resistor divider taps to this pin.", 5 RUN/SS1 (in) "Place a capacitor from RUN/SS to GND to program the soft start period. Use a 1000pF or larger capacitor at these pins. To ensure the SS capacitors are discharged, internal circuitry pulls the RUN/SS pins low and disables (See Datasheet)", 6 BST1 "The BST pins are used to provide drive voltage, higher than the input voltage, to the internal NPN power switches.", 7 SW1 (power) "The SW pins are the outputs of the internal power switches. Connect these pins to the inductors, catch diodes and boost capacitors.", 8 DA1 "Tie the DA pin to the anode of the external catch Schottky diode. If the DA pin current exceeds 1.2A, which could occur in an overload or short-circuit condition, switching is disabled until the DA pin current falls below 1.(See Datasheet)", 9 VIN (power) "The VIN pin supplies current to the LT3688’s internal circuitry and to the internal power switches and must be locally bypassed.", 10 CONFIG (in) "The CONFIG pin programs the start-up sequence of the two voltage regulators and the behavior of the power-on reset and watchdog timers. To select one of three configuration options, tie the CONFIG pin to VIN, tie the CONFIG (See Datasheet)", 11 DA2 "Tie the DA pin to the anode of the external catch Schottky diode. If the DA pin current exceeds 1.2A, which could occur in an overload or short-circuit condition, switching is disabled until the DA pin current falls below 1.(See Datasheet)", 12 SW2 (power) "The SW pins are the outputs of the internal power switches. Connect these pins to the inductors, catch diodes and boost capacitors.", 13 BST2 "The BST pins are used to provide drive voltage, higher than the input voltage, to the internal NPN power switches.", 14 RUN/SS2 (in) "Place a capacitor from RUN/SS to GND to program the soft start period. Use a 1000pF or larger capacitor at these pins. To ensure the SS capacitors are discharged, internal circuitry pulls the RUN/SS pins low and disables (See Datasheet)", 15 FB2 (in) "The LT3688 regulates the feedback pins to 0.800V. Connect the feedback resistor divider taps to this pin.", 16 ~{RST2} (oc) "The R\S\T\ pins are active low, open-drain logic outputs with a weak pull-up to BIAS. After VFB rises above 0.72V, the reset remains asserted for the period set by the capacitor on the CPOR pin. Tie the R\S\T\ pins to BIAS (See Datasheet)", 17 ~{RST1} (oc) "The R\S\T\ pins are active low, open-drain logic outputs with a weak pull-up to BIAS. After VFB rises above 0.72V, the reset remains asserted for the period set by the capacitor on the CPOR pin. Tie the R\S\T\ pins to BIAS (See Datasheet)", 18 ~{WDO} (out) "W\D\O\ will go low if the microprocessor fails to drive the WDI pin of the LT3688 with the appropriate signal. Tie the W\D\O\ pin to BIAS with a 100k resistor for a stronger pull-up. Keep capacitive loading on this pin below (See Datasheet)", 19 ~{WDE} (in) "The watchdog timer enable pin disables the watchdog timer if the W\D\E\ voltage exceeds 1V. Float this pin or tie to ground for normal operation.", 20 WDI (in) "The watchdog timer input pin receives the watchdog signal from the microprocessor. If two or more negative edges occur on WDI before the programmed fast timer period or no negative edge occurs within the slow timer period, (See Datasheet)", 21 CPOR2 (in) "Place a capacitor between this pin and ground to set the power-on-reset timeout period.", 22 BIAS (power) "The BIAS pin supplies current to the internal circuitry when BIAS is above 3V, helping reduce input quiescent current. The internal Schottky diodes are connected from BIAS to BST, providing the charging path for the boost (See Datasheet)", 23 CPOR1 (in) "Place a capacitor between this pin and ground to set the power-on-reset timeout period.", 24 CWDT (in) "Place a capacitor between this pin and ground to set the fast and slow watchdog timer periods.", 25 EP (power) "Ground. Tie the exposed pad directly to the ground plane. The exposed pad metal of the package provides both electrical contact to ground and good thermal contact to the printed circuit board. The device must be soldered to (See Datasheet)"

## LT3688EUF#TRPBF
designator U?
Dual 800 mA Step-Down Switching Regulator with Power-On Reset and Watchdog Timer, 24-pin QFN (UF-24), -40 to 125 degC, Pb-Free, Tape and Reel; Manufacturer: Linear Technology; PartNumber: LT3688EUF#TRPBF; Frequency Adjust Range: 350kHz - 2.2MHz; Number of Outputs: 2; PackageVersion: Rev. B, 02/2012; PackageReference: UF24; PackageDescription: 24-Pin Plastic QFN, Body 4 x 4 mm, Pitch 0.5 mm; Supplier 1: Digi-Key; Supplier Part Number 1: LT3688EUF#TRPBF-ND; Packing: Tape and Reel; RoHS: TRUE; Mounting Technology: Surface Mount; Code_JEDEC: MO-220; ComponentLink1Description: Manufacturer URL; ComponentLink1URL: http://www.linear.com/; ComponentLink2Description: Datasheet; ComponentLink2URL: http://cds.linear.com/docs/en/datasheet/3688f.pdf; ComponentLink3Description: Package Specification; ComponentLink3URL: http://cds.linear.com/docs/en/packaging/%28UF24%29%20QFN%2005-08-1697%20Rev%20B.pdf
footprint LT-UF-24_N (QFN, 24-Leads, Body 4.1x4.1mm, Pitch 0.5mm, Thermal Pad 2.45x2.45mm, IPC Medium Density)
footprint LT-UF-24_L (QFN, 24-Leads, Body 4.1x4.1mm, Pitch 0.5mm, Thermal Pad 2.45x2.45mm, IPC High Density)
footprint LT-UF-24_M (QFN, 24-Leads, Body 4.1x4.1mm, Pitch 0.5mm, Thermal Pad 2.45x2.45mm, IPC Low Density)
pins: 1 RT "The RT pin is used to set the internal oscillator frequency. Tie a resistor from RT to GND to set the switching frequency.", 2 SYNC (in) "Drive the SYNC pin with a logiclevel signal with positive and negative pulse widths of at least 150ns. Do not float this pin. Tie to GND if the SYNC feature is not used.", 3 EN/UVLO (in) "The EN/UVLO pin is used to put the LT3688 in shutdown mode. Pull the pin below 0.3V to shut down the LT3688. The 1.25V threshold can function as an accurate undervoltage lockout (UVLO), preventing the regulator from (See Datasheet)", 4 FB1 (in) "The LT3688 regulates the feedback pins to 0.800V. Connect the feedback resistor divider taps to this pin.", 5 RUN/SS1 (in) "Place a capacitor from RUN/SS to GND to program the soft start period. Use a 1000pF or larger capacitor at these pins. To ensure the SS capacitors are discharged, internal circuitry pulls the RUN/SS pins low and disables (See Datasheet)", 6 BST1 "The BST pins are used to provide drive voltage, higher than the input voltage, to the internal NPN power switches.", 7 SW1 (power) "The SW pins are the outputs of the internal power switches. Connect these pins to the inductors, catch diodes and boost capacitors.", 8 DA1 "Tie the DA pin to the anode of the external catch Schottky diode. If the DA pin current exceeds 1.2A, which could occur in an overload or short-circuit condition, switching is disabled until the DA pin current falls below 1.(See Datasheet)", 9 VIN (power) "The VIN pin supplies current to the LT3688’s internal circuitry and to the internal power switches and must be locally bypassed.", 10 CONFIG (in) "The CONFIG pin programs the start-up sequence of the two voltage regulators and the behavior of the power-on reset and watchdog timers. To select one of three configuration options, tie the CONFIG pin to VIN, tie the CONFIG (See Datasheet)", 11 DA2 "Tie the DA pin to the anode of the external catch Schottky diode. If the DA pin current exceeds 1.2A, which could occur in an overload or short-circuit condition, switching is disabled until the DA pin current falls below 1.(See Datasheet)", 12 SW2 (power) "The SW pins are the outputs of the internal power switches. Connect these pins to the inductors, catch diodes and boost capacitors.", 13 BST2 "The BST pins are used to provide drive voltage, higher than the input voltage, to the internal NPN power switches.", 14 RUN/SS2 (in) "Place a capacitor from RUN/SS to GND to program the soft start period. Use a 1000pF or larger capacitor at these pins. To ensure the SS capacitors are discharged, internal circuitry pulls the RUN/SS pins low and disables (See Datasheet)", 15 FB2 (in) "The LT3688 regulates the feedback pins to 0.800V. Connect the feedback resistor divider taps to this pin.", 16 ~{RST2} (oc) "The R\S\T\ pins are active low, open-drain logic outputs with a weak pull-up to BIAS. After VFB rises above 0.72V, the reset remains asserted for the period set by the capacitor on the CPOR pin. Tie the R\S\T\ pins to BIAS (See Datasheet)", 17 ~{RST1} (oc) "The R\S\T\ pins are active low, open-drain logic outputs with a weak pull-up to BIAS. After VFB rises above 0.72V, the reset remains asserted for the period set by the capacitor on the CPOR pin. Tie the R\S\T\ pins to BIAS (See Datasheet)", 18 ~{WDO} (out) "W\D\O\ will go low if the microprocessor fails to drive the WDI pin of the LT3688 with the appropriate signal. Tie the W\D\O\ pin to BIAS with a 100k resistor for a stronger pull-up. Keep capacitive loading on this pin below (See Datasheet)", 19 ~{WDE} (in) "The watchdog timer enable pin disables the watchdog timer if the W\D\E\ voltage exceeds 1V. Float this pin or tie to ground for normal operation.", 20 WDI (in) "The watchdog timer input pin receives the watchdog signal from the microprocessor. If two or more negative edges occur on WDI before the programmed fast timer period or no negative edge occurs within the slow timer period, (See Datasheet)", 21 CPOR2 (in) "Place a capacitor between this pin and ground to set the power-on-reset timeout period.", 22 BIAS (power) "The BIAS pin supplies current to the internal circuitry when BIAS is above 3V, helping reduce input quiescent current. The internal Schottky diodes are connected from BIAS to BST, providing the charging path for the boost (See Datasheet)", 23 CPOR1 (in) "Place a capacitor between this pin and ground to set the power-on-reset timeout period.", 24 CWDT (in) "Place a capacitor between this pin and ground to set the fast and slow watchdog timer periods.", 25 EP (power) "Ground. Tie the exposed pad directly to the ground plane. The exposed pad metal of the package provides both electrical contact to ground and good thermal contact to the printed circuit board. The device must be soldered to (See Datasheet)"